# EAGLE library part TFP09-2-12B (library sdcard)
Слот для SD карты TFP-09-2-12B Datasheet: http://images.100y.com.tw/pdf_file/10-TFP09-2-12B.pdf
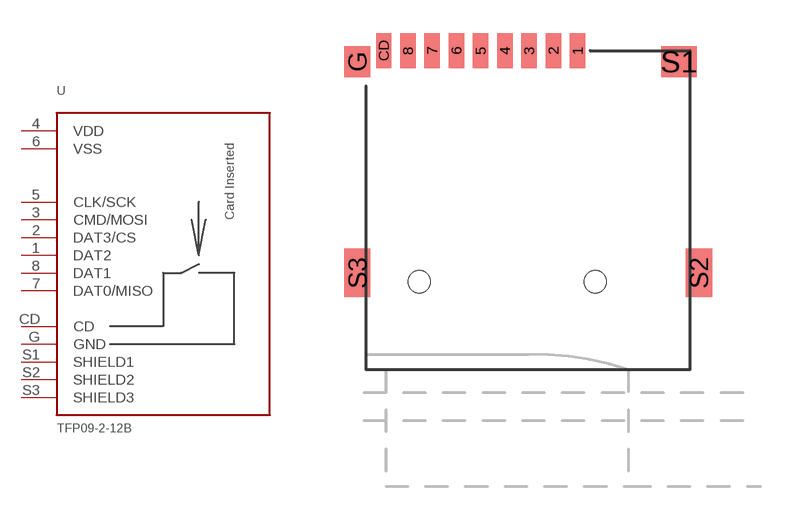
[diagram p0: symbol with the pads of TFP09-2-12B; footprint TFP09-2-12B]

Designator prefix -

## TFP09-2-12B  [TFP09-2-12B]
1  DAT2
2  DAT3/CS
3  CMD/MOSI
4  VDD  sup
5  CLK/SCK
6  VSS  sup
7  DAT0/MISO
8  DAT1
CD  CD  out
G  GND  sup
S1  SHIELD1  sup
S2  SHIELD2  sup
S3  SHIELD3  sup

## Footprint TFP09-2-12B (pad centres in mm)
Слот для SD карты TFP-09-2-12B Datasheet: http://images.100y.com.tw/pdf_file/10-TFP09-2-12B.pdf
smd 0.7 x 1.6: 1 2.25,10.5; 2 1.15,10.5; 3 0.05,10.5; 4 -1.05,10.5; 5 -2.15,10.5; 6 -3.25,10.5; 7 -4.35,10.5; 8 -5.45,10.5; CD -6.55,10.5
smd 1.2 x 1.4: G -7.75,10
smd 1.6 x 1.4: S1 6.85,10
smd 1.2 x 2.2: S2 7.75,0.4; S3 -7.75,0.4
hole 1 at -4.93,0
hole 1 at 3.05,0